# EAGLE library part ALA2F12 (library BillPorter)
Panasonic Electric Works RELAY GEN PURPOSE DPST Digi# 255-1274-ND
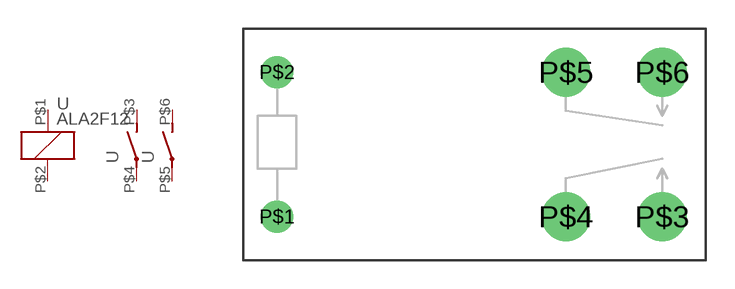
[diagram p8: symbol with the pads of ALA2F12; footprint ALA2F12]

Designator prefix -; gates G$1=K_RELAY G$2=S_RELAY G$3=S_RELAY

## ALA2F12  [ALA2F12]
P$1  G$1:1  pas
P$2  G$1:2  pas
P$3  G$2:S  pas
P$4  G$2:P  pas
P$5  G$3:P  pas
P$6  G$3:S  pas

## Footprint ALA2F12 (pad centres in mm)
drill 1 pad 1.676: P$1 -10.25,-3.75; P$2 -10.25,3.75
drill 1.4 pad 2.54: P$3 9.75,-3.75; P$4 4.75,-3.75; P$5 4.75,3.75; P$6 9.75,3.75